# EAGLE library part AD8333ACPZ-REEL (library ad8333)
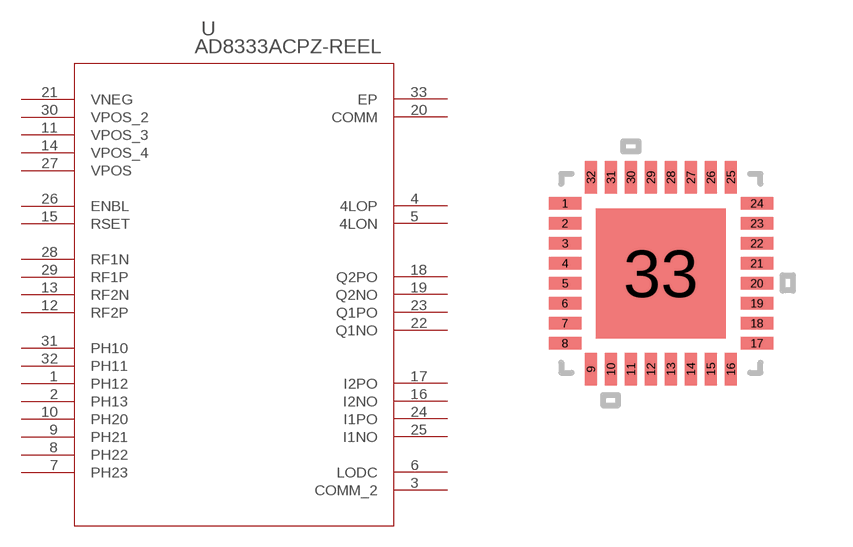
[diagram p0: symbol with the pads of CP_32_2; footprint CP_32_2]

Designator prefix U

## AD8333ACPZ-REEL  [CP_32_2]
1  PH12  pas
2  PH13  pas
3  COMM_2  pwr
4  4LOP  pas
5  4LON  pas
6  LODC  pas
7  PH23  pas
8  PH22  pas
9  PH21  pas
10  PH20  pas
11  VPOS_3  pas
12  RF2P  pas
13  RF2N  pas
14  VPOS_4  pas
15  RSET  pwr
16  I2NO  pas
17  I2PO  pas
18  Q2PO  pas
19  Q2NO  pas
20  COMM  pas
21  VNEG  pas
22  Q1NO  pas
23  Q1PO  pas
24  I1PO  pas
25  I1NO  pas
26  ENBL  pwr
27  VPOS  pas
28  RF1N  pas
29  RF1P  pas
30  VPOS_2  pas
31  PH10  pas
32  PH11  pas
33  EP  pas

## Footprint CP_32_2 (pad centres in mm)
smd 0.813 x 0.305: 1 -2.4,1.75; 2 -2.4,1.25; 3 -2.4,0.75; 4 -2.4,0.25; 5 -2.4,-0.25; 6 -2.4,-0.75; 7 -2.4,-1.25; 8 -2.4,-1.75; 17 2.4,-1.75; 18 2.4,-1.25; 19 2.4,-0.75; 20 2.4,-0.25; 21 2.4,0.25; 22 2.4,0.75; 23 2.4,1.25; 24 2.4,1.75
smd 0.305 x 0.813: 9 -1.75,-2.4; 10 -1.25,-2.4; 11 -0.75,-2.4; 12 -0.25,-2.4; 13 0.25,-2.4; 14 0.75,-2.4; 15 1.25,-2.4; 16 1.75,-2.4; 25 1.75,2.4; 26 1.25,2.4; 27 0.75,2.4; 28 0.25,2.4; 29 -0.25,2.4; 30 -0.75,2.4; 31 -1.25,2.4; 32 -1.75,2.4
smd 3.251 x 3.251: 33 0,0